# Altium integrated library SiDiodes.IntLib: 2 symbols
Pins are listed as number, name and electrical type; pins without a type are passive.

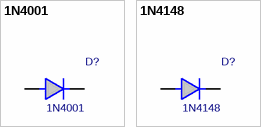
[diagram p0: symbols 1N4001 to 1N4148]

## 1N4001
designator D?
Value: *
footprint DO-41 (Diode, Axial; 10.16 mm C X 0.787 mm W 5.21 mm L X 2.72 mm Dia body); pin to pad 1>C 2>A
footprint DO-41_300mil (Diode, Axial; 7.62 mm C X 0.787 mm W 5.21 mm L X 2.72 mm Dia body); pin to pad 1>C 2>A
pins: 1, 2

## 1N4148
designator D?
Value: *
footprint SOD-123_L (Diode, Small Outline Diode (SOD); 2.675 mm L X 1.60 mm W X 1.30 mm H body); pin to pad 1>C 2>A
footprint SOD-123_M (Diode, Small Outline Diode (SOD); 2.675 mm L X 1.60 mm W X 1.30 mm H body); pin to pad 1>C 2>A
footprint SOD-123_N (Diode, Small Outline Diode (SOD); 2.675 mm L X 1.60 mm W X 1.30 mm H body); pin to pad 1>C 2>A
footprint MELF_L (Diode, Metal Electrode Leadless Face (MELF); 5.00 mm L X 2.50 mm Dia body); pin to pad 1>C 2>A
footprint MELF_M (Diode, Metal Electrode Leadless Face (MELF); 5.00 mm L X 2.50 mm Dia body); pin to pad 1>C 2>A
footprint MELF_N (Diode, Metal Electrode Leadless Face (MELF); 5.00 mm L X 2.50 mm Dia body); pin to pad 1>C 2>A
footprint DO-41 (Diode, Axial; 10.16 mm C X 0.787 mm W 5.21 mm L X 2.72 mm Dia body); pin to pad 1>C 2>A
footprint DO-41_300mil (Diode, Axial; 7.62 mm C X 0.787 mm W 5.21 mm L X 2.72 mm Dia body); pin to pad 1>C 2>A
pins: 1, 2